# Altium schematic symbol library Discrete_LED_Indication_GOST.SchLib: 5 symbols
Pins are listed as number, name and electrical type; pins without a type are passive.

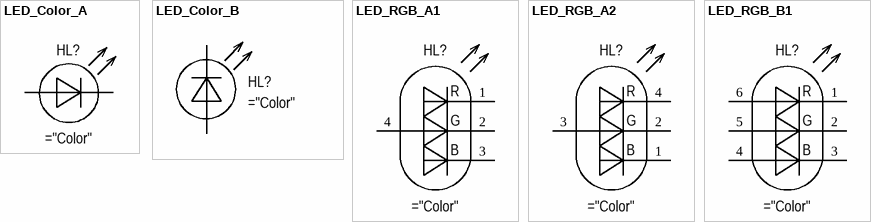
[diagram p0: symbols LED_Color_A to LED_RGB_B1]

## LED_Color_A
designator HL?
pins: 1 "Cathode", 2 "Anode"

## LED_Color_B
designator HL?
pins: 1 "Cathode", 2 "Anode"

## LED_RGB_A1
designator HL?
pins: 1, 2, 3, 4
text: R; G; B

## LED_RGB_A2
designator HL?
pins: 1, 2, 3, 4
text: R; G; B

## LED_RGB_B1
designator HL?
pins: 1, 2, 3, 4, 5, 6
text: R; G; B